# Altium integrated library Analog Devices Data Converters Analog-to-Digital Converters.IntLib: 2400 symbols (part 12 of 338)
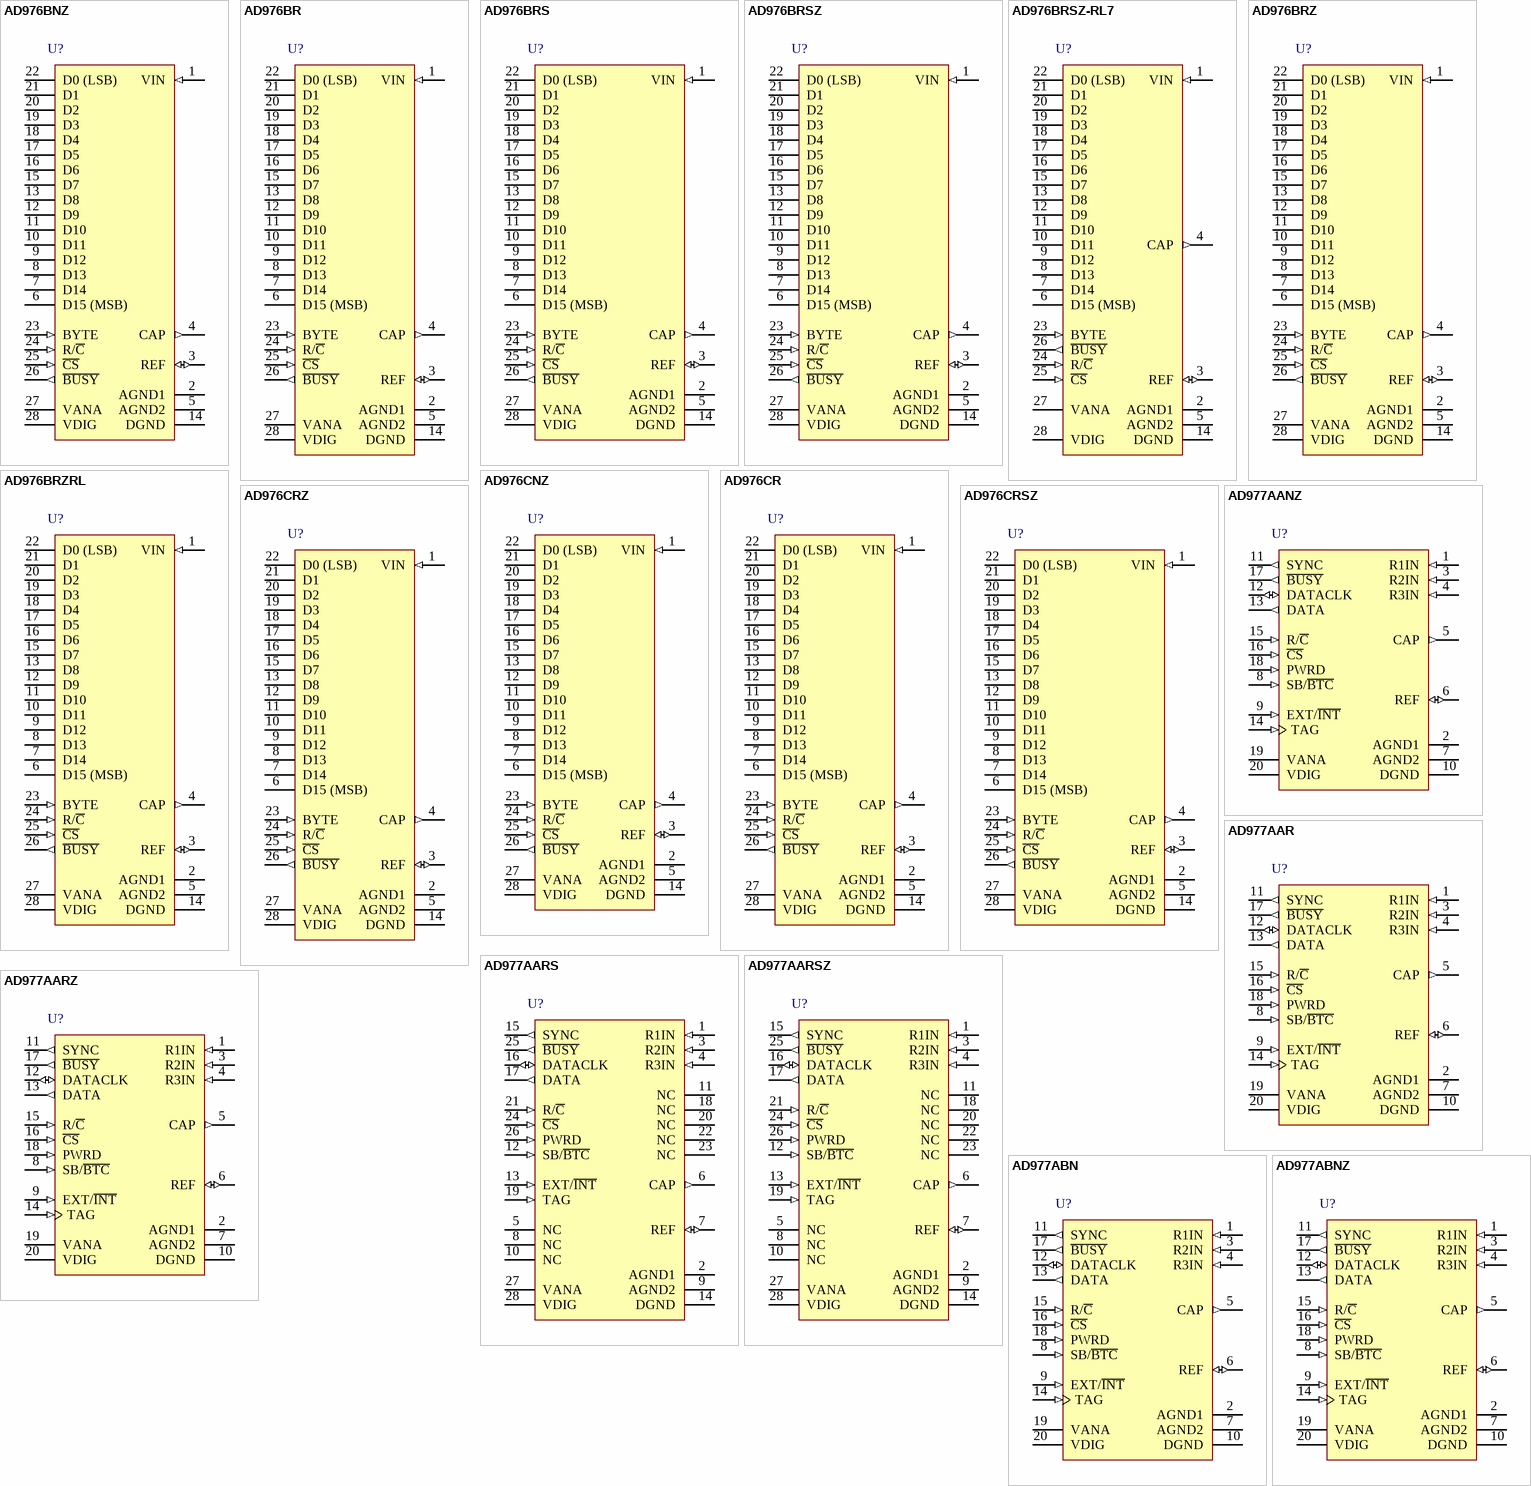
[diagram p261: symbols AD976BNZ to AD977ABNZ]

## AD977AARZ
designator U?
Single 16-Bit BiCMOS Analog-to-Digital Converter with Serial Interface, 200KSPS, -40 to +85 degC, RW-20, Pb-Free, Tube; Part Number: AD977A; Manufacturer: Analog Devices; Resolution (Bits): 16; Channels: 1; Throughput Rate (SPS): 200K; Interface: Ser; DatasheetVersion: Rev.D; PackageVersion: 060706-A; PackageReference: RW-20; PackageDescription: 20-Lead Standard Small Outline Package [SOIC_W] Wide Body; RoHS: Y; Packing: Tube; Mounting Technology: Surface Mount; Code_JEDEC: MS-013-AC; ComponentLink1Description: Manufacturer URL; ComponentLink1URL: http://www.analog.com/en/index.html; ComponentLink2Description: Datasheet; ComponentLink2URL: http://www.analog.com/static/imported-files/data_sheets/AD977_977A.pdf; ComponentLink3Description: Package Specification; ComponentLink3URL: http://www.analog.com/static/imported-files/packages/233848RW_20.pdf; ComponentLink4Description: Product URL; ComponentLink4URL: http://www.analog.com/en/analog-to-digital-converters/ad-converters/ad977a/products/product.html
footprint RW-20_N (SOIC, 20-Leads, Body 12.8x7.5mm, Pitch 1.27mm, IPC Medium Density)
footprint RW-20_L (SOIC, 20-Leads, Body 12.8x7.5mm, Pitch 1.27mm, IPC High Density)
footprint RW-20_M (SOIC, 20-Leads, Body 12.8x7.5mm, Pitch 1.27mm, IPC Low Density)
pins: 1 R1IN (in) "Analog Input. Refer to Table I, Table II for input range configuration.", 2 AGND1 (power) "Analog Ground. Used as the ground reference point for the REF pin.", 3 R2IN (in) "Analog Input. Refer to Table I, Table II for input range configuration.", 4 R3IN (in) "Analog Input. Refer to Table I, Table II for input range configuration.", 5 CAP (out) "Reference buffer output. Connect a 2.2 uF tantalum capacitor between CAP and Analog Ground.", 6 REF (io) "Reference Input/Output. The internal 2.5 V reference is available at this pin.Alternatively an external reference can be used to override the internal reference. In either case, connect a 2.2 uF tantalum capacitor between (See Datasheet)", 7 AGND2 (power) "Analog Ground.", 8 SB/~{BTC} (in) "This digital input is used to select the data format of a conversion result. With SB/B\T\C\ tied LOW, conversion data will be output in Binary Two’s Complement format. With SB/B\T\C\  connected to a logic HIGH, data is (See Datasheet)", 9 EXT/~{INT} (in) "Digital select input for choosing the internal or an external data clock. With EXT/I\N\T\ tied LOW, after initiating a conversion, 16 DATACLK pulses transmit the previous conversion result as shown in Figure 3. With EXT/INT (See Datasheet)", 10 DGND (power) "Digital Ground.", 11 SYNC (out) "Digital output frame synchronization for use with an external data clock (EXT/I\N\T\ = Logic HIGH). When a read sequence is initiated, a pulse one DATACLK period wide is output synchronous to the external data clock.", 12 DATACLK (io) "Serial data clock input or output, dependent upon the logic state of the EXT/I\N\T\ pin. When using the internal data clock (EXT/I\N\T\ = Logic LOW), a conversion start sequence will initiate transmission of 16 DATACLK (See Datasheet)", 13 DATA (out) "The serial data output is synchronized to DATACLK. Conversion results are stored in an on-chip register. The AD977 provides the conversion result, MSB first, from its internal shift register. The DATA format is determined by (See Datasheet)", 14 TAG (in) "This digital input can be used with an external data clock, (EXT/I\N\T\ = Logic HIGH) to daisy chain the conversion results from two or more AD977s onto a single DATA line. The digital data level on TAG is output on DATA (See Datasheet)", 15 R/~{C} (in) "Read/Convert Input. Is used to control the conversion and read modes of the AD977. With C\S\ LOW; a falling edge on R/C\ holds the analog input signal internally and starts a conversion, a rising edge enables the (See Datasheet)", 16 ~{CS} (in) "Chip Select Input. With R/C\ LOW, a falling edge on C\S\ will initiate a conversion.With R/C\ HIGH, a falling edge on C\S\ will enable the serial data output sequence.", 17 ~{BUSY} (out) "Busy Output. Goes LOW when a conversion is started, and remains LOW until the conversion is completed and the data is latched into the on-chip shift register.", 18 PWRD (in) "Power-Down Input. When set to a logic HIGH power consumption is reduced and conversions are inhibited. The conversion result from the previous conversion is stored in the onboard shift register.", 19 VANA (power) "Analog Power Supply. Nominally 5 V.", 20 VDIG (power) "Digital Power Supply. Nominally 5 V."

## AD977ABN
designator U?
Single 16-Bit BiCMOS Analog-to-Digital Converter with Serial Interface, 200KSPS, -40 to +85 degC, N-20, Tube; Part Number: AD977A; Manufacturer: Analog Devices; Resolution (Bits): 16; Channels: 1; Throughput Rate (SPS): 200K; Interface: Ser; DatasheetVersion: Rev.D; PackageVersion: 070706-A; PackageReference: N-20; PackageDescription: 20-Lead Plastic Dual In-Line Package [PDIP] Narrow Body; RoHS: N; Packing: Tube; Mounting Technology: Through-hole; Code_JEDEC: MS-001; ComponentLink1Description: Manufacturer URL; ComponentLink1URL: http://www.analog.com/en/index.html; ComponentLink2Description: Datasheet; ComponentLink2URL: http://www.analog.com/static/imported-files/data_sheets/AD977_977A.pdf; ComponentLink3Description: Package Specification; ComponentLink3URL: http://www.analog.com/static/imported-files/packages/50601349676519N_20.pdf; ComponentLink4Description: Product URL; ComponentLink4URL: http://www.analog.com/en/analog-to-digital-converters/ad-converters/ad977a/products/product.html
footprint N-20 (DIP, 20-Leads, Row Spacing 7.62mm, Pitch 2.54mm, Body 25.9x6.6mm)
pins: 1 R1IN (in) "Analog Input. Refer to Table I, Table II for input range configuration.", 2 AGND1 (power) "Analog Ground. Used as the ground reference point for the REF pin.", 3 R2IN (in) "Analog Input. Refer to Table I, Table II for input range configuration.", 4 R3IN (in) "Analog Input. Refer to Table I, Table II for input range configuration.", 5 CAP (out) "Reference buffer output. Connect a 2.2 uF tantalum capacitor between CAP and Analog Ground.", 6 REF (io) "Reference Input/Output. The internal 2.5 V reference is available at this pin.Alternatively an external reference can be used to override the internal reference. In either case, connect a 2.2 uF tantalum capacitor between (See Datasheet)", 7 AGND2 (power) "Analog Ground.", 8 SB/~{BTC} (in) "This digital input is used to select the data format of a conversion result. With SB/B\T\C\ tied LOW, conversion data will be output in Binary Two's Complement format. With SB/B\T\C\ connected to a logic HIGH, data is output in (See Datasheet)", 9 EXT/~{INT} (in) "Digital select input for choosing the internal or an external data clock. With EXT/I\N\T\ tied LOW, after initiating a conversion, 16 DATACLK pulses transmit the previous conversion result as shown in Figure 3. With EXT/I\N\T\ set (See Datasheet)", 10 DGND (power) "Digital Ground.", 11 SYNC (out) "Digital output frame synchronization for use with an external data clock(EXT/I\N\T\ = Logic HIGH). When a read sequence is initiated, a pulse one DATACLK period wide is output synchronous to the external data clock.", 12 DATACLK (io) "Serial data clock input or output, dependent upon the logic state of the EXT/I\N\T\ pin. When using the internal data clock (EXT/I\N\T\ = Logic LOW), a conversion start sequence will initiate transmission of 16 DATACLK periods. (See Datasheet)", 13 DATA (out) "The serial data output is synchronized to DATACLK. Conversion results are stored in an on-chip register. The AD977 provides the conversion result, MSB first, from its internal shift register. The DATA format is determined by (See Datasheet)", 14 TAG (in) "This digital input can be used with an external data clock, (EXT/I\N\T\ = Logic HIGH) to daisy chain the conversion results from two or more AD977s onto a single DATA line. The digital data level on TAG is output on DATA with a (See Datasheet)", 15 R/~{C} (in) "Read/Convert Input. Is used to control the conversion and read modes of the AD977. With C\S\ LOW; a falling edge on R/C holds the analog input signal internally and starts a conversion, a rising edge enables the transmission (See Datasheet)", 16 ~{CS} (in) "Chip Select Input. With R/C LOW, a falling edge on CS will initiate a conversion.With R/C HIGH, a falling edge on CS will enable the serial data output sequence.", 17 ~{BUSY} (out) "Busy Output. Goes LOW when a conversion is started, and remains LOW until the conversion is completed and the data is latched into the on-chip shift register.", 18 PWRD (in) "Power-Down Input. When set to a logic HIGH power consumption is reduced and conversions are inhibited. The conversion result from the previous conversion is stored in the onboard shift register.", 19 VANA (power) "Analog Power Supply. Nominally 5 V.", 20 VDIG (power) "Digital Power Supply. Nominally 5 V."

## AD977ABNZ
designator U?
Single 16-Bit BiCMOS Analog-to-Digital Converter with Serial Interface, 200KSPS, -40 to +85 degC, N-20, Pb-Free, Tube; Part Number: AD977A; Manufacturer: Analog Devices; Resolution (Bits): 16; Channels: 1; Throughput Rate (SPS): 200K; Interface: Ser; DatasheetVersion: Rev.D; PackageVersion: 070706-A; PackageReference: N-20; PackageDescription: 20-Lead Plastic Dual In-Line Package [PDIP] Narrow Body; RoHS: Y; Packing: Tube; Mounting Technology: Through-hole; Code_JEDEC: MS-001; ComponentLink1Description: Manufacturer URL; ComponentLink1URL: http://www.analog.com/en/index.html; ComponentLink2Description: Datasheet; ComponentLink2URL: http://www.analog.com/static/imported-files/data_sheets/AD977_977A.pdf; ComponentLink3Description: Package Specification; ComponentLink3URL: http://www.analog.com/static/imported-files/packages/50601349676519N_20.pdf; ComponentLink4Description: Product URL; ComponentLink4URL: http://www.analog.com/en/analog-to-digital-converters/ad-converters/ad977a/products/product.html
footprint N-20 (DIP, 20-Leads, Row Spacing 7.62mm, Pitch 2.54mm, Body 25.9x6.6mm)
pins: 1 R1IN (in) "Analog Input. Refer to Table I, Table II for input range configuration.", 2 AGND1 (power) "Analog Ground. Used as the ground reference point for the REF pin.", 3 R2IN (in) "Analog Input. Refer to Table I, Table II for input range configuration.", 4 R3IN (in) "Analog Input. Refer to Table I, Table II for input range configuration.", 5 CAP (out) "Reference buffer output. Connect a 2.2 uF tantalum capacitor between CAP and Analog Ground.", 6 REF (io) "Reference Input/Output. The internal 2.5 V reference is available at this pin.Alternatively an external reference can be used to override the internal reference. In either case, connect a 2.2 uF tantalum capacitor between (See Datasheet)", 7 AGND2 (power) "Analog Ground.", 8 SB/~{BTC} (in) "This digital input is used to select the data format of a conversion result. With SB/B\T\C\ tied LOW, conversion data will be output in Binary Two's Complement format. With SB/B\T\C\ connected to a logic HIGH, data is output in (See Datasheet)", 9 EXT/~{INT} (in) "Digital select input for choosing the internal or an external data clock. With EXT/I\N\T\ tied LOW, after initiating a conversion, 16 DATACLK pulses transmit the previous conversion result as shown in Figure 3. With EXT/I\N\T\ set (See Datasheet)", 10 DGND (power) "Digital Ground.", 11 SYNC (out) "Digital output frame synchronization for use with an external data clock(EXT/I\N\T\ = Logic HIGH). When a read sequence is initiated, a pulse one DATACLK period wide is output synchronous to the external data clock.", 12 DATACLK (io) "Serial data clock input or output, dependent upon the logic state of the EXT/I\N\T\ pin. When using the internal data clock (EXT/I\N\T\ = Logic LOW), a conversion start sequence will initiate transmission of 16 DATACLK periods. (See Datasheet)", 13 DATA (out) "The serial data output is synchronized to DATACLK. Conversion results are stored in an on-chip register. The AD977 provides the conversion result, MSB first, from its internal shift register. The DATA format is determined by (See Datasheet)", 14 TAG (in) "This digital input can be used with an external data clock, (EXT/I\N\T\ = Logic HIGH) to daisy chain the conversion results from two or more AD977s onto a single DATA line. The digital data level on TAG is output on DATA with a (See Datasheet)", 15 R/~{C} (in) "Read/Convert Input. Is used to control the conversion and read modes of the AD977. With C\S\ LOW; a falling edge on R/C holds the analog input signal internally and starts a conversion, a rising edge enables the transmission (See Datasheet)", 16 ~{CS} (in) "Chip Select Input. With R/C LOW, a falling edge on CS will initiate a conversion.With R/C HIGH, a falling edge on CS will enable the serial data output sequence.", 17 ~{BUSY} (out) "Busy Output. Goes LOW when a conversion is started, and remains LOW until the conversion is completed and the data is latched into the on-chip shift register.", 18 PWRD (in) "Power-Down Input. When set to a logic HIGH power consumption is reduced and conversions are inhibited. The conversion result from the previous conversion is stored in the onboard shift register.", 19 VANA (power) "Analog Power Supply. Nominally 5 V.", 20 VDIG (power) "Digital Power Supply. Nominally 5 V."

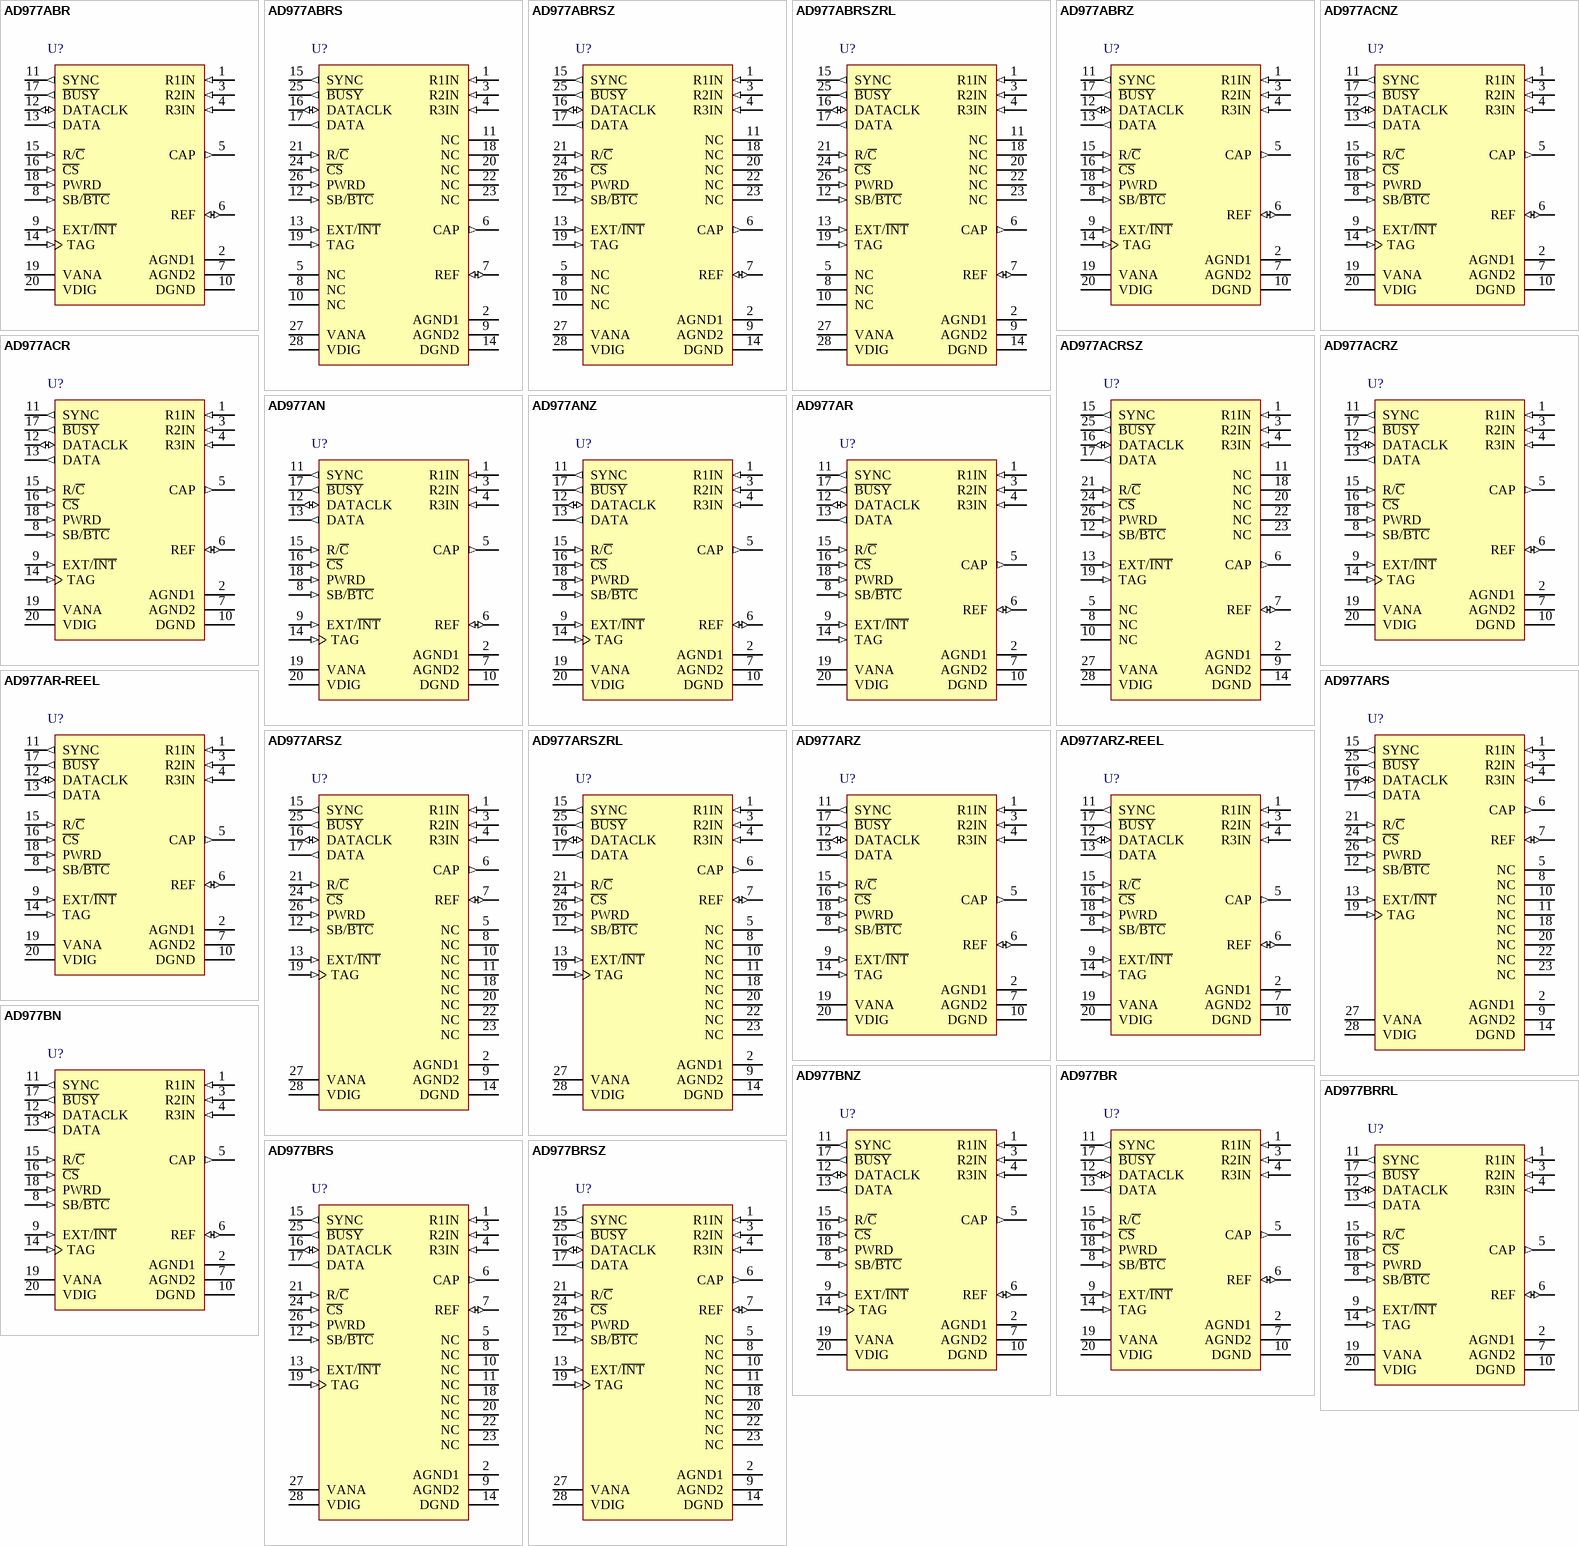
[diagram p5: symbols AD977ABR to AD977BRSZ]